# Altium integrated library Integrated_Library1.IntLib: 3 symbols
Pins are listed as number, name and electrical type; pins without a type are passive.

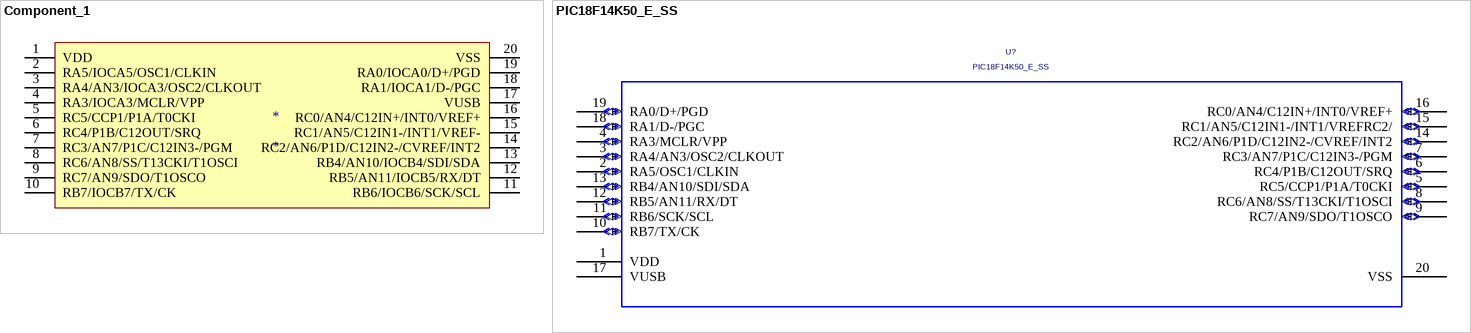
[diagram p0: symbols Component_1 to PIC18F14K50_E_SS]

## Component_1
designator *
pins: 1 VDD (power), 2 RA5/IOCA5/OSC1/CLKIN (power), 3 RA4/AN3/IOCA3/OSC2/CLKOUT (power), 4 RA3/IOCA3/MCLR/VPP (power), 5 RC5/CCP1/P1A/T0CKI (power), 6 RC4/P1B/C12OUT/SRQ (power), 7 RC3/AN7/P1C/C12IN3-/PGM (power), 8 RC6/AN8/SS/T13CKI/T1OSCI (power), 9 RC7/AN9/SDO/T1OSCO (power), 10 RB7/IOCB7/TX/CK (power), 11 RB6/IOCB6/SCK/SCL (power), 12 RB5/AN11/IOCB5/RX/DT (power), 13 RB4/AN10/IOCB4/SDI/SDA (power), 14 RC2/AN6/P1D/C12IN2-/CVREF/INT2 (power), 15 RC1/AN5/C12IN1-/INT1/VREF- (power), 16 RC0/AN4/C12IN+/INT0/VREF+ (power), 17 VUSB (power), 18 RA1/IOCA1/D-/PGC (power), 19 RA0/IOCA0/D+/PGD (power), 20 VSS (power)

## PIC18F14K50_E_SS
designator U?
Value: pic18f14k50_e_ss
footprint PIC18F14K50_E_SS
pins: 1 VDD (power), 2 RA5/OSC1/CLKIN (io), 3 RA4/AN3/OSC2/CLKOUT (io), 4 RA3/MCLR/VPP (io), 5 RC5/CCP1/P1A/T0CKI (io), 6 RC4/P1B/C12OUT/SRQ (io), 7 RC3/AN7/P1C/C12IN3-/PGM (io), 8 RC6/AN8/SS/T13CKI/T1OSCI (io), 9 RC7/AN9/SDO/T1OSCO (io), 10 RB7/TX/CK (io), 11 RB6/SCK/SCL (io), 12 RB5/AN11/RX/DT (io), 13 RB4/AN10/SDI/SDA (io), 14 RC2/AN6/P1D/C12IN2-/CVREF/INT2 (io), 15 RC1/AN5/C12IN1-/INT1/VREFRC2/ (io), 16 RC0/AN4/C12IN+/INT0/VREF+ (io), 17 VUSB (power), 18 RA1/D-/PGC (io), 19 RA0/D+/PGD (io), 20 VSS (power)


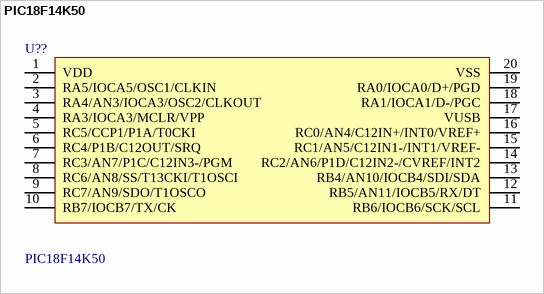
[diagram p1: symbol PIC18F14K50]

## PIC18F14K50
designator U??
Microchip PIC18F14K50; Published: 2010; LatestRevisionDate: 29-May-2009; PackageVersion: 2010; PackageReference: SSOP-20; Publisher: Microchip; PackageDescription: 20-Lead Plastic Shrink Small Outline (SS) - 5.30 mm Body [SSOP]
footprint Model Name (Footprint not found)
pins: 1 VDD (power), 2 RA5/IOCA5/OSC1/CLKIN (power), 3 RA4/AN3/IOCA3/OSC2/CLKOUT (power), 4 RA3/IOCA3/MCLR/VPP (power), 5 RC5/CCP1/P1A/T0CKI (power), 6 RC4/P1B/C12OUT/SRQ (power), 7 RC3/AN7/P1C/C12IN3-/PGM (power), 8 RC6/AN8/SS/T13CKI/T1OSCI (power), 9 RC7/AN9/SDO/T1OSCO (power), 10 RB7/IOCB7/TX/CK (power), 11 RB6/IOCB6/SCK/SCL (power), 12 RB5/AN11/IOCB5/RX/DT (power), 13 RB4/AN10/IOCB4/SDI/SDA (power), 14 RC2/AN6/P1D/C12IN2-/CVREF/INT2 (power), 15 RC1/AN5/C12IN1-/INT1/VREF- (power), 16 RC0/AN4/C12IN+/INT0/VREF+ (power), 17 VUSB (power), 18 RA1/IOCA1/D-/PGC (power), 19 RA0/IOCA0/D+/PGD (power), 20 VSS (power)